# EAGLE library part USB-C (library CalvEngIO-Connectors)
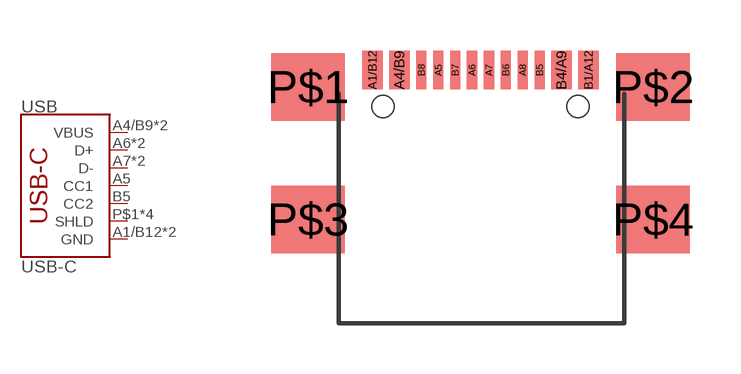
[diagram p23: symbol with the pads of USBC.USB4110-GF-A; footprint USBC.USB4110-GF-A]

Designator prefix USB

## USB-C.USB4110-GF-A  [USBC.USB4110-GF-A]
A1/B12  GND
A4/B9  VBUS
A5  CC1
A6  D+
A7  D-
B1/A12  GND
B4/A9  VBUS
B5  CC2
B6  D+
B7  D-
P$1  SHLD
P$2  SHLD
P$3  SHLD
P$4  SHLD

## Footprint USBC.USB4110-GF-A (pad centres in mm)
smd 0.6 x 1.15: A1/B12 -3.2,0; A4/B9 -2.4,0; B1/A12 3.2,0; B4/A9 2.4,0
smd 0.3 x 1.15: A5 -1.25,0; A6 -0.25,0; A7 0.25,0; A8 1.25,0; B5 1.75,0; B6 0.75,0; B7 -0.75,0; B8 -1.75,0
smd 2.18 x 2: P$1 -5.11,-0.5; P$2 5.11,-0.5; P$3 -5.11,-4.42; P$4 5.11,-4.42
hole 0.65 at -2.89,-1.075
hole 0.65 at 2.89,-1.075